# Altium schematic symbol library Semikron_SKS-170F-B6Ci-141-V12_.SchLib: 1 symbol
Pins are listed as number, name and electrical type; pins without a type are passive.

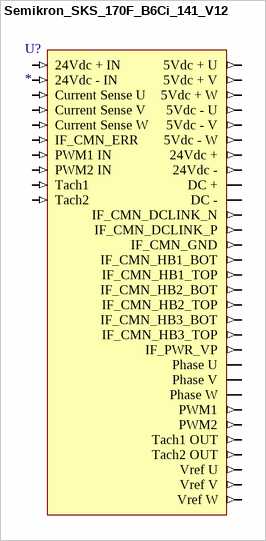
[diagram p0: symbol Semikron_SKS_170F_B6Ci_141_V12]

## Semikron_SKS_170F_B6Ci_141_V12
designator U?
pins: 5Vdc + U (out), 5Vdc + V (out), 5Vdc + W (out), 5Vdc - U (out), 5Vdc - V (out), 5Vdc - W (out), 24Vdc + (out), 24Vdc + IN (in), 24Vdc - (out), 24Vdc - IN (in), Current Sense U (in), Current Sense V (in), Current Sense W (in), DC + (io), DC - (io), IF_CMN_DCLINK_N (out), IF_CMN_DCLINK_P (out), IF_CMN_ERR (in), IF_CMN_GND (out), IF_CMN_HB1_BOT (out), IF_CMN_HB1_TOP (out), IF_CMN_HB2_BOT (out), IF_CMN_HB2_TOP (out), IF_CMN_HB3_BOT (out), IF_CMN_HB3_TOP (out), IF_PWR_VP (out), Phase U (io), Phase V (io), Phase W (io), PWM1 (out), PWM1 IN (in), PWM2 (out), PWM2 IN (in), Tach1 (in), Tach1 OUT (out), Tach2 (in), Tach2 OUT (out), Vref U (out), Vref V (out), Vref W (out)